# Altium footprint library 底板.PcbLib: 20 footprints (part 2 of 2)
Each footprint in its own frame and in the unit in brackets; x right, y up, seen from the top. Pads: shape width x height; smd on the part's side, far side on the other; paste and mask are expansions set on the pad; w line width, h text height; cw(c..) or ccw(c..) is an arc to the next point about the centre after c.
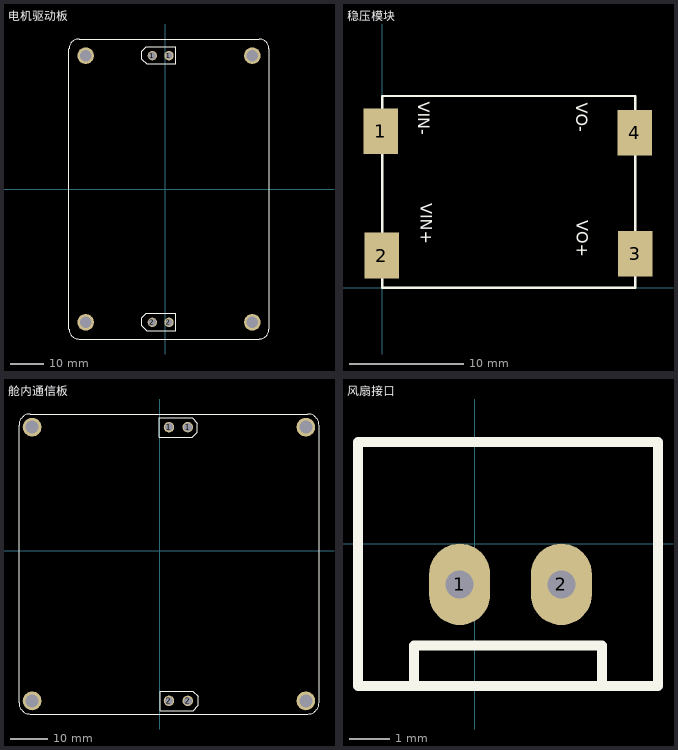
[diagram p1: the footprints below, top view; thin cyan lines are the x and y axes]

## 电机驱动板 [mm]
pads (8):
  round 2.8 hole 2.2: 1(-3.9,40.1) 2(-3.9,-39.9)
  round 2.8 hole 2.1: 1(1.1,40.1) 2(1.1,-39.9)
  round 5 hole 3.5: ""(-23.9,-39.9) ""(-23.9,40.1) ""(26.1,-39.9) ""(26.1,40.1)
Top Overlay:
  lines w0.013: -28.9,-41.9 ccw(c-25.9,-41.9) -25.9,-44.9 28.1,-44.9 ccw(c28.1,-41.9) 31.1,-41.9 31.1,42.1 ccw(c28.1,42.1) 28.1,45.1 -25.9,45.1 ccw(c-25.9,42.1) -28.9,42.1 -28.9,-41.9
  lines w0.254: -7.074,39.042 -7.074,41.444 -5.713,42.805 3.126,42.805 3.126,37.605 -5.637,37.605 -7.074,39.042 ; -7.05,-40.926 -5.613,-42.363 3.15,-42.363 3.15,-37.163 -5.69,-37.163 -7.05,-38.524 -7.05,-40.926

## 稳压模块 [mm]
pads (4):
  rect 3x4 smd: 1(-0.127,13.691) 2(-0.051,2.819) 3(22.098,2.972) 4(22.073,13.564)
Top Overlay:
  lines w0.203: 0,0 0,16.764 22.098,16.764 22.098,0 0,0
  text "VIN+" at 3.378,7.391 h1.02
  text "VIN-" at 3.15,16.256 h1.02
  text "VO-" at 16.967,16.154 h1.02
  text "VO+" at 16.993,5.918 h1.02

## 舱内通信板 [mm]
pads (8):
  round 2.8 hole 2.1: 1(2.431,32.949) 2(2.431,-40.051)
  round 2.8 hole 2.2: 1(7.431,32.949) 2(7.431,-40.051)
  round 5 hole 3.5: ""(-34.069,-40.051) ""(-34.069,32.949) ""(38.931,-40.051) ""(38.931,32.949)
Top Overlay:
  circle w0.013: c38.931,-40.051 r1.75
  circle w0.013: c-34.069,32.949 r1.75
  circle w0.013: c38.931,32.949 r1.75
  circle w0.013: c-34.069,-40.051 r1.75
  lines w0.013: -37.569,-40.551 ccw(c-34.569,-40.551) -34.569,-43.551 39.431,-43.551 ccw(c39.431,-40.551) 42.431,-40.551 42.431,33.449 ccw(c39.431,33.449) 39.431,36.449 -34.569,36.449 ccw(c-34.569,33.449) -37.569,33.449 -37.569,-40.551
  lines w0.254: -0.175,30.231 8.664,30.231 10.025,31.591 10.025,33.994 8.588,35.431 -0.175,35.431 -0.175,30.231 ; 0.05,-42.644 8.889,-42.644 10.25,-41.284 10.25,-38.881 8.813,-37.444 0.05,-37.444 0.05,-42.644

## 风扇接口 [mil]
pads (2):
  oval 60x80 hole 27.56: 1(-15,-40) 2(85,-40)
Top Overlay:
  lines w10: -60,-140 -60,-100 125,-100 125,-140 ; -115,-140 -115,-20 -115,100 180,100 180,-140 -115,-140